# Altium footprint library 125CDMCCDS-100MC.PcbLib: 1 footprints
Each footprint in its own frame and in the unit in brackets; x right, y up, seen from the top. Pads: shape width x height; smd on the part's side, far side on the other; paste and mask are expansions set on the pad; w line width, h text height; cw(c..) or ccw(c..) is an arc to the next point about the centre after c.
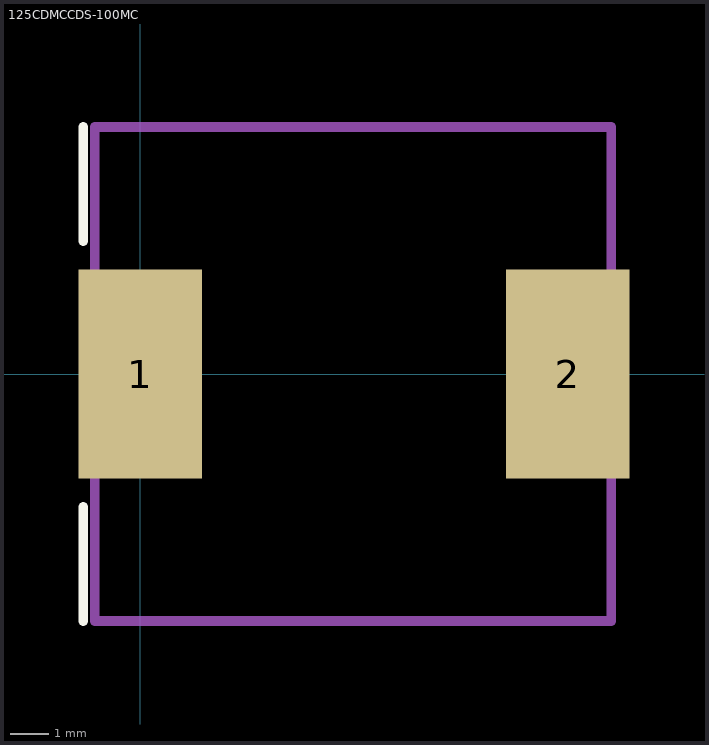
[diagram p0: the footprint, top view; thin cyan lines are the x and y axes]

## 125CDMCCDS-100MC [mm]
height 5
pads (2):
  rect 3.25x5.5 smd: 1(0,0) 2(11.25,0)
Top Overlay:
  lines w0.254: -1.5,-6.5 -1.5,-3.5 ; -1.5,3.5 -1.5,6.5
Mechanical 15:
  lines w0.254: -1.2,-6.5 12.4,-6.5 12.4,6.5 -1.2,6.5 -1.2,-6.5
3D body: height 5, standoff 0, extent -1.15,-6.5 12.35,6.5